# Altium footprint library PcbLib1.PcbLib: 1 footprints
Each footprint in its own frame and in the unit in brackets; x right, y up, seen from the top. Pads: shape width x height; smd on the part's side, far side on the other; paste and mask are expansions set on the pad; w line width, h text height; cw(c..) or ccw(c..) is an arc to the next point about the centre after c.
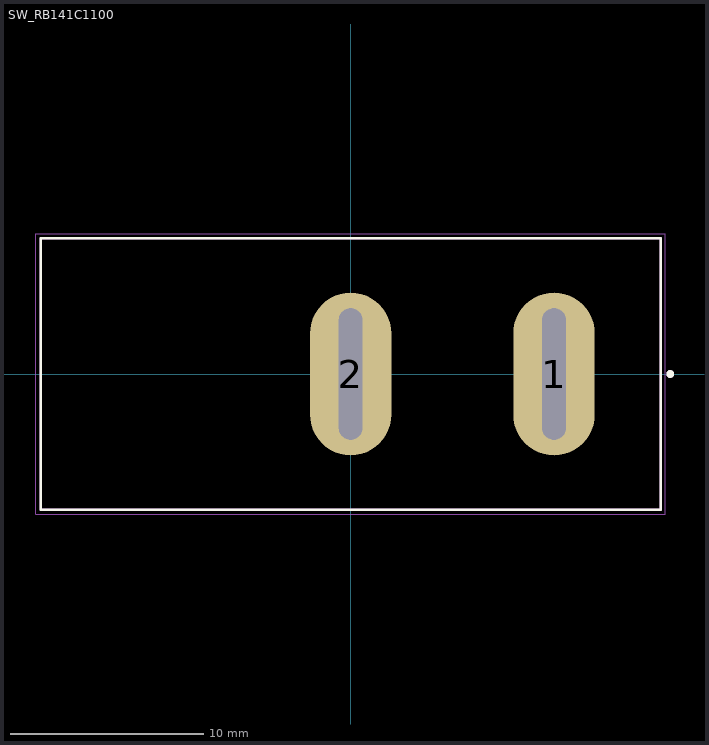
[diagram p0: the footprint, top view; thin cyan lines are the x and y axes]

## SW_RB141C1100 [mm]
pads (2):
  oval 4.2x8.4 hole 1.2 slot 6.8 at 90 deg: 1(10.5,0) 2(0,0)
Top Overlay:
  circle w0.2: c16.5,0 r0.1
  lines w0.127: -16,-7 16,-7 16,7 -16,7 -16,-7
Mechanical 13:
  circle w0.2: c16.5,0 r0.1
  lines w0.127: -16,-7 16,-7 16,7 -16,7 -16,-7
Mechanical 15:
  lines w0.05: -16.25,-7.25 16.25,-7.25 16.25,7.25 -16.25,7.25 -16.25,-7.25